# Altium schematic symbol library SolderBridge.SchLib: 2 symbols
Pins are listed as number, name and electrical type; pins without a type are passive.

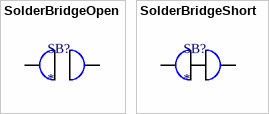
[diagram p0: symbols SolderBridgeOpen to SolderBridgeShort]

## SolderBridgeOpen
designator SB?
footprint SOLDERBRIDGEOPEN
pins: 1, 2  2

## SolderBridgeShort
designator SB?
footprint SOLDERBRIDGESHORT
pins: 1, 2